# Altium footprint library Drosel.PcbLib: 92 footprints (part 6 of 6)
Each footprint in its own frame and in the unit in brackets; x right, y up, seen from the top. Pads: shape width x height; smd on the part's side, far side on the other; paste and mask are expansions set on the pad; w line width, h text height; cw(c..) or ccw(c..) is an arc to the next point about the centre after c.
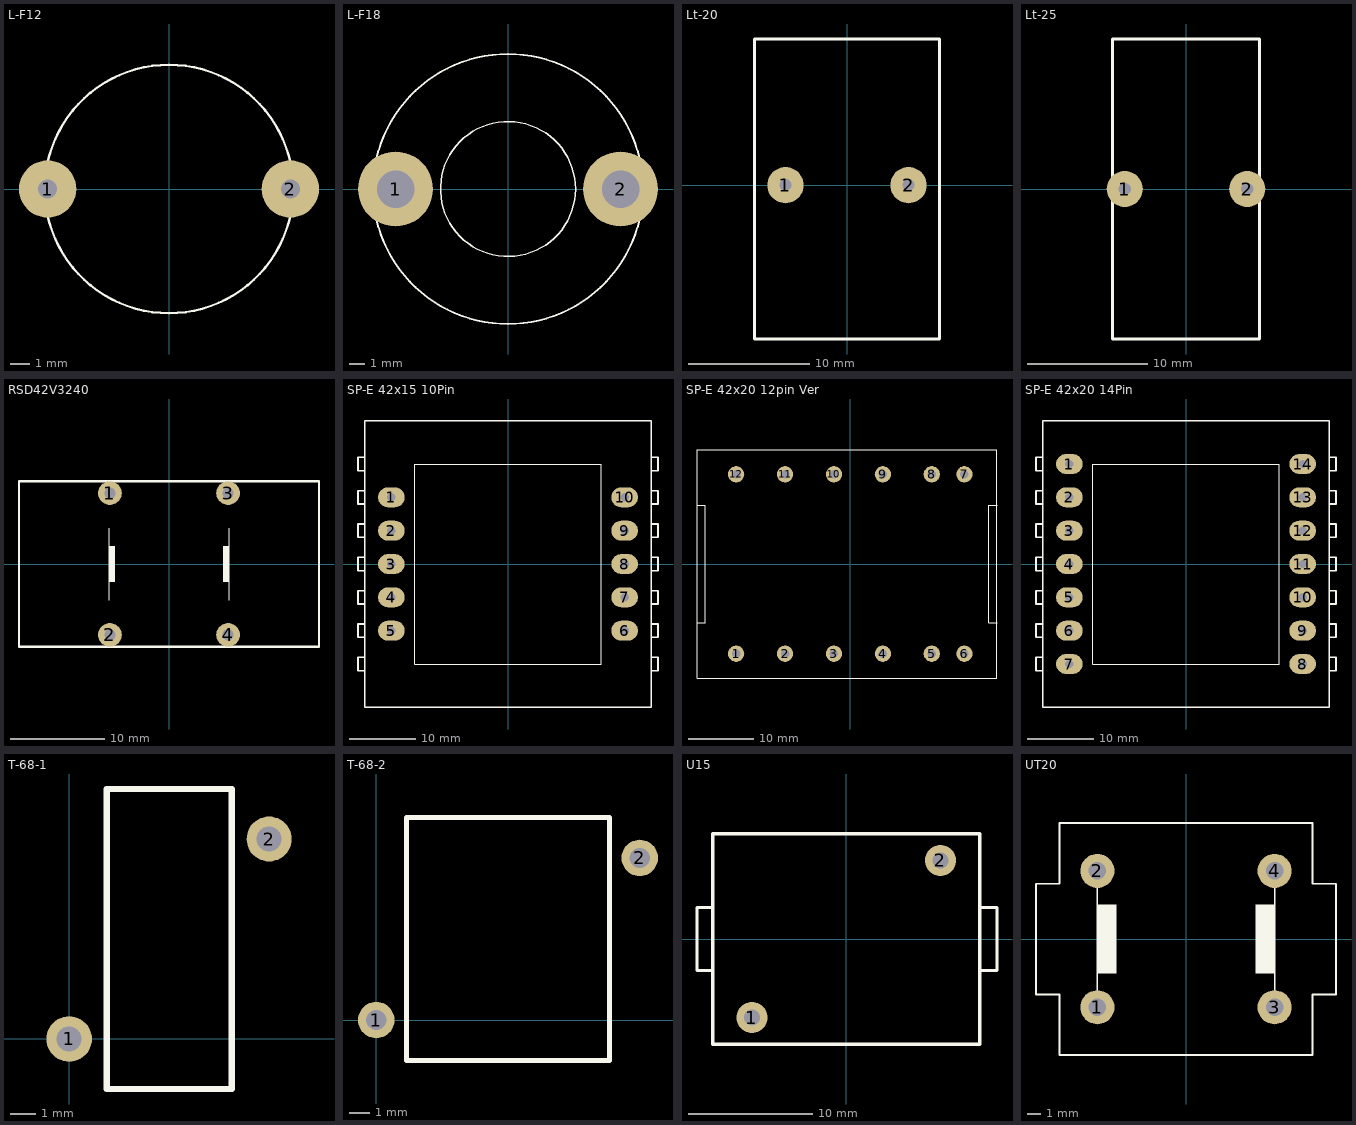
[diagram p5: the footprints below, top view; thin cyan lines are the x and y axes]

## L-F12 [mm]
pads (2):
  round 3 hole 1: 1(-6.35,0) 2(6.35,0)
Top Overlay:
  circle w0.127: c0,0 r6.5

## L-F18 [mm]
pads (2):
  round 5 hole 2.5: 1(-7.5,0) 2(7.5,0)
Top Overlay:
  circle w0.127: c0,0 r9
  circle w0.1: c0,0 r4.5

## Lt-20 [mm]
pads (2):
  round 3 hole 1: 1(-5.08,0) 2(5.08,0)
Top Overlay:
  lines w0.254: -7.62,-12.7 7.62,-12.7 7.62,12.065 -7.62,12.065 -7.62,-12.7
3D body: height 24, standoff 0, extent -7.62,-12.7 7.62,12.065

## Lt-25 [mm]
pads (2):
  round 3 hole 1: 1(-5.08,0) 2(5.08,0)
Top Overlay:
  lines w0.254: -6.096,-12.446 6.096,-12.446 6.096,12.446 -6.096,12.446 -6.096,-12.446

## RSD42V3240 [mm]
pads (4):
  round 2.5 hole 1.2: 1(-6.25,7.5) 2(-6.25,-7.5) 3(6.25,7.5) 4(6.25,-7.5)
Top Overlay:
  region: -5.715,-1.905 -5.715,1.905 -6.35,1.905 -6.35,-1.905
  region: 5.715,1.905 5.715,-1.905 6.35,-1.905 6.35,1.905
  lines w0.127: -6.35,-3.81 -6.35,3.81 ; 6.35,-3.81 6.35,3.81
  lines w0.254: -15.875,-8.75 -15.875,8.75 15.875,8.75 15.875,-8.75 -15.875,-8.75
3D body: height 29, standoff -2.5, extent -15.75,-8.75 15.75,8.75

## SP-E 42x15 10Pin [mm]
pads (10):
  oval 4x3 hole 1.27: 1(-17.5,10) 2(-17.5,5) 3(-17.5,0) 4(-17.5,-5) 5(-17.5,-10) 6(17.5,-10) 7(17.5,-5) 8(17.5,0) 9(17.5,5) 10(17.5,10)
Top Overlay:
  lines w0.127: -13.97,-15 13.97,-15 13.97,15 -13.97,15 -13.97,-15
  lines w0.254: -21.51,-16 -22.5,-16 -22.5,-14 -21.51,-14 ; -21.51,-11 -22.5,-11 -22.5,-9 -21.51,-9 ; -21.51,-6 -22.5,-6 -22.5,-4 -21.51,-4 ; -21.51,-1 -22.5,-1 -22.5,1 -21.51,1 ; -21.51,4 -22.5,4 -22.5,6 -21.51,6 ; -21.51,9 -22.5,9 -22.5,11 -21.51,11 ; -21.51,14 -22.5,14 -22.5,16 -21.51,16 ; 21.51,-16 22.5,-16 22.5,-14 21.51,-14 ; 21.51,-11 22.5,-11 22.5,-9 21.51,-9 ; 21.51,-6 22.5,-6 22.5,-4 21.51,-4 ; 21.51,-1 22.5,-1 22.5,1 21.51,1 ; 21.51,4 22.5,4 22.5,6 21.51,6 ; 21.51,9 22.5,9 22.5,11 21.51,11 ; 21.51,14 22.5,14 22.5,16 21.51,16 ; -21.51,-21.51 21.51,-21.51 21.51,21.51 -21.51,21.51 -21.51,-21.51
3D body: height 25.5, standoff 10.5, extent -21.5,-21.5 21.5,21.5
3D body: height 34, standoff 0, extent -15,-15 15,15

## SP-E 42x20 12pin Ver [mm]
pads (12):
  round 2.5 hole 1.3: 1(-17.5,-13.75) 2(-10,-13.75) 3(-2.5,-13.75) 4(5,-13.75) 5(12.5,-13.75) 6(17.5,-13.75) 7(17.5,13.75) 8(12.5,13.75) 9(5,13.75) 10(-2.5,13.75) 11(-10,13.75) 12(-17.5,13.75)
Top Overlay:
  lines w0.127: -23.5,-9 -22.25,-9 -22.25,9 -23.5,9 ; 22.5,-9 21.25,-9 21.25,9 22.5,9 ; -23.5,-17.5 -23.5,17.5 22.5,17.5 22.5,-17.5 -23.5,-17.5
3D body: height 47.4, standoff -4.5, extent -23.5,-17.5 22.5,17.5

## SP-E 42x20 14Pin [mm]
pads (14):
  oval 4x3 hole 1.27: 1(-17.5,15) 2(-17.5,10) 3(-17.5,5) 4(-17.5,0) 5(-17.5,-5) 6(-17.5,-10) 7(-17.5,-15) 8(17.5,-15) 9(17.5,-10) 10(17.5,-5) 11(17.5,0) 12(17.5,5) 13(17.5,10) 14(17.5,15)
Top Overlay:
  lines w0.127: -13.97,-15 13.97,-15 13.97,15 -13.97,15 -13.97,-15
  lines w0.254: -21.51,-16 -22.5,-16 -22.5,-14 -21.51,-14 ; -21.51,-11 -22.5,-11 -22.5,-9 -21.51,-9 ; -21.51,-6 -22.5,-6 -22.5,-4 -21.51,-4 ; -21.51,-1 -22.5,-1 -22.5,1 -21.51,1 ; -21.51,4 -22.5,4 -22.5,6 -21.51,6 ; -21.51,9 -22.5,9 -22.5,11 -21.51,11 ; -21.51,14 -22.5,14 -22.5,16 -21.51,16 ; 21.51,-16 22.5,-16 22.5,-14 21.51,-14 ; 21.51,-11 22.5,-11 22.5,-9 21.51,-9 ; 21.51,-6 22.5,-6 22.5,-4 21.51,-4 ; 21.51,-1 22.5,-1 22.5,1 21.51,1 ; 21.51,4 22.5,4 22.5,6 21.51,6 ; 21.51,9 22.5,9 22.5,11 21.51,11 ; 21.51,14 22.5,14 22.5,16 21.51,16 ; -21.51,-21.51 -21.51,21.51 21.51,21.51 21.51,-21.51 -21.51,-21.51
3D body: height 37, standoff 0, extent -15,-15 15,15
3D body: height 30.5, standoff 10.5, extent -21.5,-21.5 21.5,21.5

## T-68-1 [mm]
pads (2):
  round 1.824 hole 1: 1(0,0)
  round 1.8 hole 1: 2(8,8)
Top Overlay:
  lines w0.254: 1.5,-2 6.5,-2 6.5,10 1.5,10 1.5,-2

## T-68-2 [mm]
height 35
pads (2):
  round 1.8 hole 1: 1(0,0) 2(13,8)
Top Overlay:
  lines w0.254: 1.5,-2 1.5,10 11.5,10 11.5,-2 1.5,-2

## U15 [mm]
pads (2):
  round 2.5 hole 1.27: 1(-7.62,-6.35) 2(7.62,6.35)
Top Overlay:
  lines w0.254: -10.795,-2.54 -12.065,-2.54 -12.065,2.54 -10.795,2.54 ; 10.795,-2.54 12.192,-2.54 12.192,2.54 10.795,2.54 ; -10.795,-8.509 10.795,-8.509 10.795,8.509 -10.795,8.509 -10.795,-8.509

## UT20 [mm]
pads (4):
  round 2.5 hole 1.27: 1(-6.5,-5) 2(-6.5,5) 3(6.5,-5) 4(6.5,5)
Top Overlay:
  rectangle: 5.08,-2.54 6.5,2.54
  rectangle: -6.5,-2.54 -5.08,2.54
  lines w0.127: -6.5,-5 -6.5,5 ; 6.5,-5 6.5,5 ; -11,-4.064 -9.271,-4.064 -9.271,-8.5 9.271,-8.5 9.271,-4.064 11,-4.064 11,4.064 9.271,4.064 9.271,8.509 -9.271,8.509 -9.271,4.064 -11,4.064 -11,-4.064